# EAGLE library part APDS-9301 (library ds_ic_peripherals)
Miniature Ambient Light Photo Sensor with Digital (I2C) Output https://www.hestore.hu/prod_getfile.php?id=6029
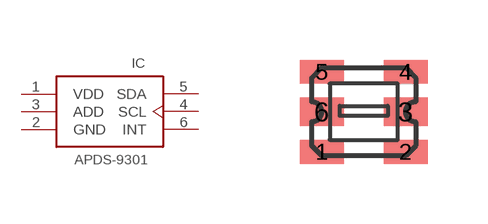
[diagram p60: symbol with the pads of APDS-9301; footprint APDS-9301]

Designator prefix IC

## APDS-9301  [APDS-9301]
1  VDD  pwr
2  GND  pwr
3  ADD
4  SCL
5  SDA
6  INT

## Footprint APDS-9301 (pad centres in mm)
smd 1.1 x 0.6: 1 0.25,0.1; 2 2.35,0.1; 4 2.35,2.1; 5 0.25,2.1
smd 1.1 x 0.7: 3 2.35,1.1; 6 0.25,1.1